# Altium schematic symbol library C&R.SchLib: 53 symbols
Pins are listed as number, name and electrical type; pins without a type are passive.

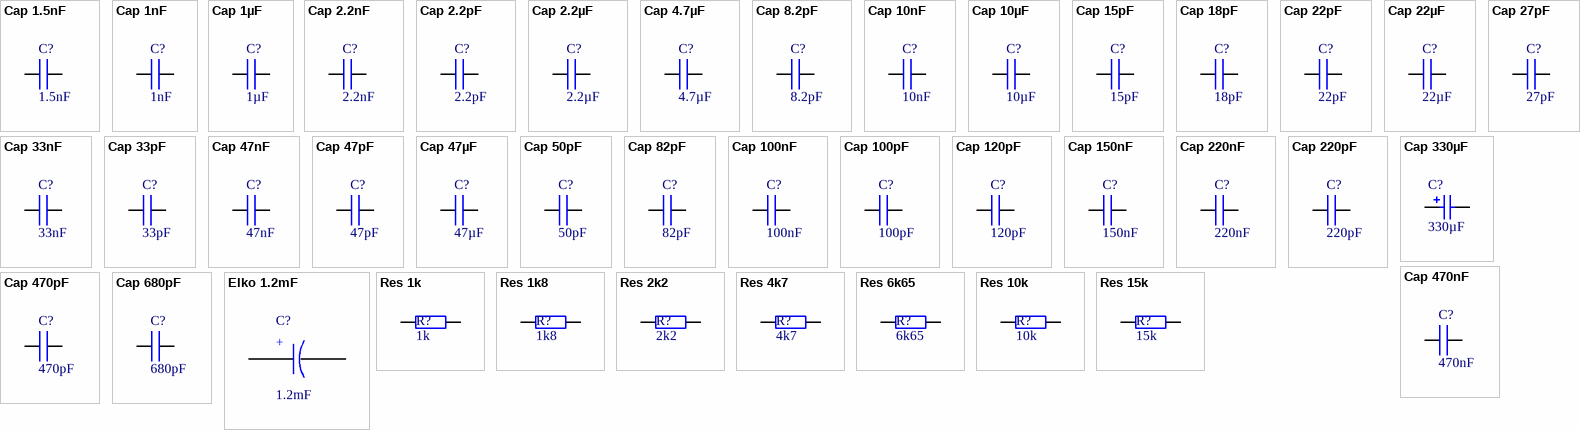
[diagram p0: symbols Cap 1.5nF to Res 15k]

## Cap 1.5nF
designator C?  Capacity: 1.5nF  (hidden comment: Cap 1.5nF)
Ceramic Capacitor 1.5nF; Voltage: 25V
footprint 0805 (C) (Chip Resistor, 2-Leads, Body 2.0x1.3mm, IPC Low Density)
footprint 0201 (C)
pins: 1, 2

## Cap 1nF
designator C?  Capacity: 1nF  (hidden comment: Cap 1nF)
Ceramic Capacitor 1nF; Voltage: 25V; Supplier 1: Digi-Key; Supplier Part Number 1: 445-1347-1-ND
footprint 0805 (C) (Chip Resistor, 2-Leads, Body 2.0x1.3mm, IPC Low Density)
pins: 1, 2

## Cap 1µF
designator C?  Capacity: 1µF  (hidden comment: Cap 1µF)
Ceramic Capacitor 1µF; Voltage: 25V; Supplier 1: Digi-Key; Supplier Part Number 1: 445-1590-1-ND
footprint 0805 (C) (Chip Resistor, 2-Leads, Body 2.0x1.3mm, IPC Low Density)
footprint 0201 (C)
footprint 0402 (C)
pins: 1, 2

## Cap 2.2nF
designator C?  Capacity: 2.2nF  (hidden comment: Cap 2.2nF)
Ceramic Capacitor 2.2nF; Voltage: 25V; Supplier 1: Digi-Key; Supplier Part Number 1: 445-7525-1-ND
footprint 0805 (C) (Chip Resistor, 2-Leads, Body 2.0x1.3mm, IPC Low Density)
footprint 0201 (C)
pins: 1, 2

## Cap 2.2pF
designator C?  Capacity: 2.2pF  (hidden comment: Cap 2.2pF)
Ceramic Capacitor 1nF; Voltage: 25V; Supplier 1: Digi-Key; Supplier Part Number 1: 478-5018-1-ND
footprint 0805 (C) (Chip Resistor, 2-Leads, Body 2.0x1.3mm, IPC Low Density)
pins: 1, 2

## Cap 2.2µF
designator C?  Capacity: 2.2µF  (hidden comment: Cap 2.2µF)
Ceramic Capacitor 2.2µF; Voltage: 25V; Supplier 1: Digi-Key; Supplier Part Number 1: 445-3459-1-ND
footprint 0805 (C) (Chip Resistor, 2-Leads, Body 2.0x1.3mm, IPC Low Density)
footprint 0402 (C)
pins: 1, 2

## Cap 4.7µF
designator C?  Capacity: 4.7µF  (hidden comment: Cap 4.7µF)
Ceramic Capacitor 4.7µF; Voltage: 25V; Supplier 1: Digi-Key; Supplier Part Number 1: 445-3460-1-ND
footprint 0805 (C) (Chip Resistor, 2-Leads, Body 2.0x1.3mm, IPC Low Density)
footprint 0402 (C)
pins: 1, 2

## Cap 8.2pF
designator C?  Capacity: 8.2pF  (hidden comment: Cap 8.2pF)
Ceramic Capacitor 8.2pF; Voltage: 50V; Digi-Key: 311-1012-1-ND
footprint 0805 (C) (Chip Resistor, 2-Leads, Body 2.0x1.3mm, IPC Low Density)
footprint 0402 (C)
footprint 0201 (C)
pins: 1, 2

## Cap 10nF
designator C?  Capacity: 10nF  (hidden comment: Cap 10nF)
Ceramic Capacitor 10nF; Voltage: 25V; Supplier 1: Digi-Key; Supplier Part Number 1: 445-1348-1-ND
footprint 0805 (C) (Chip Resistor, 2-Leads, Body 2.0x1.3mm, IPC Low Density)
footprint 0201 (C)
pins: 1, 2

## Cap 10µF
designator C?  Capacity: 10µF  (hidden comment: Cap 10µF)
Ceramic Capacitor 10µF; Voltage: 25V; Supplier 1: Digi-Key; Supplier Part Number 1: 490-5523-1-ND
footprint 0805 (C) (Chip Resistor, 2-Leads, Body 2.0x1.3mm, IPC Low Density)
footprint 0402 (C)
footprint 0603 (C)
pins: 1, 2

## Cap 15pF
designator C?  Capacity: 15pF  (hidden comment: Cap 15pF)
Ceramic Capacitor 15pF; Voltage: 50V; Digi-Key: 311-1017-1-ND
footprint 0805 (C) (Chip Resistor, 2-Leads, Body 2.0x1.3mm, IPC Low Density)
footprint 0402 (C)
footprint 0201 (C)
pins: 1, 2

## Cap 18pF
designator C?  Capacity: 18pF  (hidden comment: Cap 18pF)
Ceramic Capacitor 18pF; Voltage: 25V; Supplier 1: Digi-Key; Supplier Part Number 1: 478-1307-1-ND
footprint 0805 (C) (Chip Resistor, 2-Leads, Body 2.0x1.3mm, IPC Low Density)
pins: 1, 2

## Cap 22pF
designator C?  Capacity: 22pF  (hidden comment: Cap 22pF)
Ceramic Capacitor 22pF
footprint 0805 (C) (Chip Resistor, 2-Leads, Body 2.0x1.3mm, IPC Low Density)
footprint 0402 (C)
pins: 1, 2

## Cap 22µF
designator C?  CAPACITY: 22µF  (hidden comment: Cap 22µF)
Ceramic Capacitor 22µF; VOLTAGE: 35V; Supplier 1: Digi-Key; Supplier Part Number 1: 445-8045-1-ND
footprint 1206 (C) (Chip Resistor, 2-Leads, Body 3.2x1.6mm, IPC Low Density)
footprint 0805 (C) (Chip Resistor, 2-Leads, Body 2.0x1.3mm, IPC Low Density)
footprint 0603 (C)
pins: 1, 2

## Cap 27pF
designator C?  Capacity: 27pF  (hidden comment: Cap 27pF)
Ceramic Capacitor 27pF
footprint 0805 (C) (Chip Resistor, 2-Leads, Body 2.0x1.3mm, IPC Low Density)
footprint 0402 (C)
pins: 1, 2

## Cap 33nF
designator C?  Capacity: 33nF  (hidden comment: Cap 33nF)
Ceramic Capacitor 33nF
footprint 0805 (C) (Chip Resistor, 2-Leads, Body 2.0x1.3mm, IPC Low Density)
footprint 0402 (C)
footprint 0201 (C)
pins: 1, 2

## Cap 33pF
designator C?  Capacity: 33pF  (hidden comment: Cap 33pF)
Ceramic Capacitor 33pF; Voltage: 50V; Digi-Key: 311-1012-1-ND
footprint 0805 (C) (Chip Resistor, 2-Leads, Body 2.0x1.3mm, IPC Low Density)
footprint 0402 (C)
footprint 0201 (C)
pins: 1, 2

## Cap 47nF
designator C?  Capacity: 47nF  (hidden comment: Cap 47nF)
Ceramic Capacitor 47nF; Voltage: 50V; Digi-Key: 311-1012-1-ND
footprint 0805 (C) (Chip Resistor, 2-Leads, Body 2.0x1.3mm, IPC Low Density)
footprint 0402 (C)
footprint 0201 (C)
pins: 1, 2

## Cap 47pF
designator C?  Capacity: 47pF  (hidden comment: Cap 47pF)
Ceramic Capacitor 47pF
footprint 0805 (C) (Chip Resistor, 2-Leads, Body 2.0x1.3mm, IPC Low Density)
footprint 0402 (C)
footprint 0201 (C)
pins: 1, 2

## Cap 47µF
designator C?  Capacity: 47µF  (hidden comment: Cap 47µF)
Ceramic Capacitor 47µF; Voltage: 50V; Digi-Key: 311-1012-1-ND
footprint 0805 (C) (Chip Resistor, 2-Leads, Body 2.0x1.3mm, IPC Low Density)
footprint 0402 (C)
footprint 0201 (C)
pins: 1, 2

## Cap 50pF
designator C?  Capacity: 50pF  (hidden comment: Cap 50pF)
Ceramic Capacitor 50pF
footprint 0805 (C) (Chip Resistor, 2-Leads, Body 2.0x1.3mm, IPC Low Density)
footprint 0402 (C)
pins: 1, 2

## Cap 82pF
designator C?  Capacity: 82pF  (hidden comment: Cap 82pF)
Ceramic Capacitor 82pF
footprint 0805 (C) (Chip Resistor, 2-Leads, Body 2.0x1.3mm, IPC Low Density)
footprint 0402 (C)
pins: 1, 2

## Cap 100nF
designator C?  Capacity: 100nF  (hidden comment: Cap 100nF)
Ceramic Capacitor 100nF; Voltage: 25V
footprint 0805 (C) (Chip Resistor, 2-Leads, Body 2.0x1.3mm, IPC Low Density)
footprint 0201 (C)
pins: 1, 2

## Cap 100pF
designator C?  Capacity: 100pF  (hidden comment: Cap 100pF)
Ceramic Capacitor 100pF; Voltage: 25V
footprint 0805 (C) (Chip Resistor, 2-Leads, Body 2.0x1.3mm, IPC Low Density)
pins: 1, 2

## Cap 120pF
designator C?  Capacity: 120pF  (hidden comment: Cap 120pF)
Ceramic Capacitor 120pF; Voltage: 25V
footprint 0805 (C) (Chip Resistor, 2-Leads, Body 2.0x1.3mm, IPC Low Density)
pins: 1, 2

## Cap 150nF
designator C?  Capacity: 150nF  (hidden comment: Cap 150nF)
Ceramic Capacitor 150nF; Voltage: 50V; Digi-Key: 311-1012-1-ND
footprint 0805 (C) (Chip Resistor, 2-Leads, Body 2.0x1.3mm, IPC Low Density)
footprint 0402 (C)
footprint 0201 (C)
pins: 1, 2

## Cap 220nF
designator C?  Capacity: 220nF  (hidden comment: Cap 220nF)
Ceramic Capacitor 220nF; Voltage: 25V
footprint 0805 (C) (Chip Resistor, 2-Leads, Body 2.0x1.3mm, IPC Low Density)
footprint 0201 (C)
pins: 1, 2

## Cap 220pF
designator C?  Capacity: 220pF  (hidden comment: Cap 220pF)
Ceramic Capacitor 220pF; Voltage: 50V; Digi-Key: ?
footprint 0805 (C) (Chip Resistor, 2-Leads, Body 2.0x1.3mm, IPC Low Density)
footprint 0402 (C)
footprint 0201 (C)
pins: 1, 2

## Cap 330µF
designator C?  value 330µF  (hidden comment: Cap 330µF)
Tantalum Capacitor 330µF 10V; Published: 8-Jun-2000; LatestRevisionDate: 17-Jul-2002; LatestRevisionNote: Re-released for DXP Platform.; PackageReference: RB7.6-15; Publisher: Altium Limited; PackageDescription: Polarized Capacitor (Radial); 2 Leads; Supplier 1: Mouser; Supplier Part Number 1: 74-592W337X0010C2T20; Voltage: 10V
simulation model CAP (Capacitor)
signal-integrity model Cap Pol
footprint 3.2mm x 7.1mm (C) (Chip Resistor, 2-Leads, Body 3.2x1.6mm, IPC Low Density); pin to pad 1>A 2>K
pins: 1, 2
1 alternate drawing of the same symbol

## Cap 470nF
designator C?  Capacity: 470nF  (hidden comment: Cap 470nF)
Ceramic Capacitor 470nF; Voltage: 25V
footprint 0805 (C) (Chip Resistor, 2-Leads, Body 2.0x1.3mm, IPC Low Density)
footprint 0201 (C)
pins: 1, 2

## Cap 470pF
designator C?  Capacity: 470pF  (hidden comment: Cap 470pF)
Ceramic Capacitor 470pF; Voltage: 25V; Supplier 1: Digi-Key; Supplier Part Number 1: 478-1324-1-ND
footprint 0805 (C) (Chip Resistor, 2-Leads, Body 2.0x1.3mm, IPC Low Density)
pins: 1, 2

## Cap 680pF
designator C?  Capacity: 680pF  (hidden comment: Cap 680pF)
Ceramic Capacitor 680pF; Voltage: 25V; Supplier 1: Digi-Key; Supplier Part Number 1: 445-7503-1-ND
footprint 0805 (C) (Chip Resistor, 2-Leads, Body 2.0x1.3mm, IPC Low Density)
pins: 1, 2

## Elko 1.2mF
designator C?  CAPACITY: 1.2mF  (hidden comment: Elko 1.2mF)
VOLTAGE: 25V; Supplier 1: Mouser; Supplier Part Number 1: 667-EEU-FR1E122L
footprint CAP 10x25MM
pins: 1, 2
text: +

## Res 1k
designator R?  value 1k  (hidden comment: Res 1k)
Resistor 1k; Published: 8-Jun-2000; LatestRevisionDate: 17-Jul-2002; LatestRevisionNote: Re-released for DXP Platform.; PackageReference: AXIAL-0.4; Publisher: Altium Limited; PackageDescription: Axial Device, Thru-Hole; 2 Leads; 0.4 in Pin Spacing; Supplier 1: Digi-Key; Supplier Part Number 1: RMCF0805FT2K20CT-ND
footprint AXIAL-0.4 (Axial Device, Thru-Hole; 2 Leads; 0.4 in Pin Spacing)
simulation model RESISTOR (Resistor)
signal-integrity model Res
footprint 6-0805_M (Chip Resistor, Body 2.0x1.2mm, IPC Low Density)
footprint 0805 (R) (Chip Resistor, 2-Leads, Body 2.0x1.3mm, IPC Low Density)
pins: 1, 2

## Res 1k8
designator R?  value 1k8  (hidden comment: Res 1k8)
Resistor 1k8; Published: 8-Jun-2000; LatestRevisionDate: 17-Jul-2002; LatestRevisionNote: Re-released for DXP Platform.; PackageReference: AXIAL-0.4; Publisher: Altium Limited; PackageDescription: Axial Device, Thru-Hole; 2 Leads; 0.4 in Pin Spacing
footprint AXIAL-0.4 (Axial Device, Thru-Hole; 2 Leads; 0.4 in Pin Spacing)
simulation model RESISTOR (Resistor)
signal-integrity model Res
footprint 6-0805_M (Chip Resistor, Body 2.0x1.2mm, IPC Low Density)
footprint 0805 (R) (Chip Resistor, 2-Leads, Body 2.0x1.3mm, IPC Low Density)
pins: 1, 2

## Res 2k2
designator R?  value 2k2  (hidden comment: Res 2k2)
Resistor 2k2; Published: 8-Jun-2000; LatestRevisionDate: 17-Jul-2002; LatestRevisionNote: Re-released for DXP Platform.; PackageReference: AXIAL-0.4; Publisher: Altium Limited; PackageDescription: Axial Device, Thru-Hole; 2 Leads; 0.4 in Pin Spacing; Supplier 1: Digi-Key; Supplier Part Number 1: RMCF0805FT2K20CT-ND
footprint AXIAL-0.4 (Axial Device, Thru-Hole; 2 Leads; 0.4 in Pin Spacing)
simulation model RESISTOR (Resistor)
signal-integrity model Res
footprint 6-0805_M (Chip Resistor, Body 2.0x1.2mm, IPC Low Density)
footprint 0805 (R) (Chip Resistor, 2-Leads, Body 2.0x1.3mm, IPC Low Density)
footprint 0201 (R)
pins: 1, 2

## Res 4k7
designator R?  value 4k7  (hidden comment: Res 4k7)
Resistor 4k7; Published: 8-Jun-2000; LatestRevisionDate: 17-Jul-2002; LatestRevisionNote: Re-released for DXP Platform.; PackageReference: AXIAL-0.4; Publisher: Altium Limited; PackageDescription: Axial Device, Thru-Hole; 2 Leads; 0.4 in Pin Spacing; Supplier 1: Digi-Key; Supplier Part Number 1: RMCF0805FT4K70CT-ND
footprint AXIAL-0.4 (Axial Device, Thru-Hole; 2 Leads; 0.4 in Pin Spacing)
simulation model RESISTOR (Resistor)
signal-integrity model Res
footprint 6-0805_M (Chip Resistor, Body 2.0x1.2mm, IPC Low Density)
footprint 0805 (R) (Chip Resistor, 2-Leads, Body 2.0x1.3mm, IPC Low Density)
footprint 0201 (R)
pins: 1, 2

## Res 6k65
designator R?  value 6k65  (hidden comment: Res 6k65)
Resistor 6k65; Published: 8-Jun-2000; LatestRevisionDate: 17-Jul-2002; LatestRevisionNote: Re-released for DXP Platform.; PackageReference: AXIAL-0.4; Publisher: Altium Limited; PackageDescription: Axial Device, Thru-Hole; 2 Leads; 0.4 in Pin Spacing; Supplier 1: Digi-Key; Supplier Part Number 1: RMCF0805FT6K65CT-ND
footprint AXIAL-0.4 (Axial Device, Thru-Hole; 2 Leads; 0.4 in Pin Spacing)
simulation model RESISTOR (Resistor)
signal-integrity model Res
footprint 6-0805_M (Chip Resistor, Body 2.0x1.2mm, IPC Low Density)
footprint 0805 (R) (Chip Resistor, 2-Leads, Body 2.0x1.3mm, IPC Low Density)
pins: 1, 2

## Res 10k
designator R?  value 10k  (hidden comment: Res 10k)
Resistor 10k; Published: 8-Jun-2000; LatestRevisionDate: 17-Jul-2002; LatestRevisionNote: Re-released for DXP Platform.; PackageReference: AXIAL-0.4; Publisher: Altium Limited; PackageDescription: Axial Device, Thru-Hole; 2 Leads; 0.4 in Pin Spacing; Supplier 1: Digi-Key; Supplier Part Number 1: RMCF0805FT10K0CT-ND
footprint AXIAL-0.4 (Axial Device, Thru-Hole; 2 Leads; 0.4 in Pin Spacing)
simulation model RESISTOR (Resistor)
signal-integrity model Res
footprint 6-0805_M (Chip Resistor, Body 2.0x1.2mm, IPC Low Density)
footprint 0805 (R) (Chip Resistor, 2-Leads, Body 2.0x1.3mm, IPC Low Density)
footprint 0201 (R)
footprint 0603 (R)
pins: 1, 2

## Res 15k
designator R?  value 15k  (hidden comment: Res 15k)
Resistor 15k
footprint AXIAL-0.4 (Axial Device, Thru-Hole; 2 Leads; 0.4 in Pin Spacing)
simulation model RESISTOR (Resistor)
signal-integrity model Res
footprint 6-0805_M (Chip Resistor, Body 2.0x1.2mm, IPC Low Density)
footprint 0805 (R) (Chip Resistor, 2-Leads, Body 2.0x1.3mm, IPC Low Density)
footprint 0201 (R)
pins: 1, 2

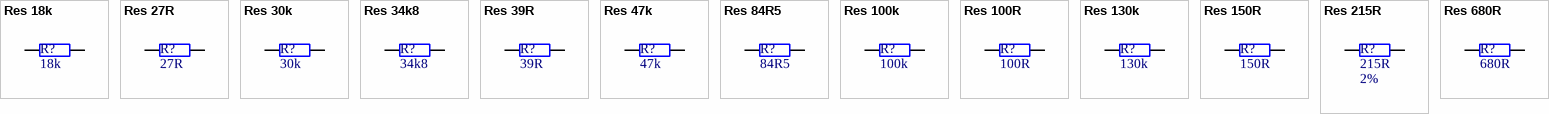
[diagram p1: symbols Res 18k to Res 680R]

## Res 18k
designator R?  value 18k  (hidden comment: Res 18k)
Resistor 18k; Published: 8-Jun-2000; LatestRevisionDate: 17-Jul-2002; LatestRevisionNote: Re-released for DXP Platform.; PackageReference: AXIAL-0.4; Publisher: Altium Limited; PackageDescription: Axial Device, Thru-Hole; 2 Leads; 0.4 in Pin Spacing; Supplier 1: Digi-Key; Supplier Part Number 1: RHM18.0KCRCT-ND
footprint AXIAL-0.4 (Axial Device, Thru-Hole; 2 Leads; 0.4 in Pin Spacing)
simulation model RESISTOR (Resistor)
signal-integrity model Res
footprint 6-0805_M (Chip Resistor, Body 2.0x1.2mm, IPC Low Density)
footprint 0805 (R) (Chip Resistor, 2-Leads, Body 2.0x1.3mm, IPC Low Density)
pins: 1, 2

## Res 27R
designator R?  value 27R  (hidden comment: Res 27R)
Resistor 27R; Published: 8-Jun-2000; LatestRevisionDate: 17-Jul-2002; LatestRevisionNote: Re-released for DXP Platform.; PackageReference: AXIAL-0.4; Publisher: Altium Limited; PackageDescription: Axial Device, Thru-Hole; 2 Leads; 0.4 in Pin Spacing
footprint AXIAL-0.4 (Axial Device, Thru-Hole; 2 Leads; 0.4 in Pin Spacing)
simulation model RESISTOR (Resistor)
signal-integrity model Res
footprint 6-0805_M (Chip Resistor, Body 2.0x1.2mm, IPC Low Density)
footprint 0805 (R) (Chip Resistor, 2-Leads, Body 2.0x1.3mm, IPC Low Density)
footprint 0201 (R)
pins: 1, 2

## Res 30k
designator R?  value 30k  (hidden comment: Res 30k)
Resistor 30k; Published: 8-Jun-2000; LatestRevisionDate: 17-Jul-2002; LatestRevisionNote: Re-released for DXP Platform.; PackageReference: AXIAL-0.4; Publisher: Altium Limited; PackageDescription: Axial Device, Thru-Hole; 2 Leads; 0.4 in Pin Spacing
footprint AXIAL-0.4 (Axial Device, Thru-Hole; 2 Leads; 0.4 in Pin Spacing)
simulation model RESISTOR (Resistor)
signal-integrity model Res
footprint 6-0805_M (Chip Resistor, Body 2.0x1.2mm, IPC Low Density)
footprint 0805 (R) (Chip Resistor, 2-Leads, Body 2.0x1.3mm, IPC Low Density)
footprint 0201 (R)
footprint 0603 (R)
pins: 1, 2

## Res 34k8
designator R?  value 34k8  (hidden comment: Res 34k8)
Resistor 34k8; Published: 8-Jun-2000; LatestRevisionDate: 17-Jul-2002; LatestRevisionNote: Re-released for DXP Platform.; PackageReference: AXIAL-0.4; Publisher: Altium Limited; PackageDescription: Axial Device, Thru-Hole; 2 Leads; 0.4 in Pin Spacing; Supplier 1: Digi-Key; Supplier Part Number 1: P34.8KCCT-ND
footprint AXIAL-0.4 (Axial Device, Thru-Hole; 2 Leads; 0.4 in Pin Spacing)
simulation model RESISTOR (Resistor)
signal-integrity model Res
footprint 6-0805_M (Chip Resistor, Body 2.0x1.2mm, IPC Low Density)
footprint 0805 (R) (Chip Resistor, 2-Leads, Body 2.0x1.3mm, IPC Low Density)
pins: 1, 2

## Res 39R
designator R?  value 39R  (hidden comment: Res 39R)
Resistor 39R; Published: 8-Jun-2000; LatestRevisionDate: 17-Jul-2002; LatestRevisionNote: Re-released for DXP Platform.; PackageReference: AXIAL-0.4; Publisher: Altium Limited; PackageDescription: Axial Device, Thru-Hole; 2 Leads; 0.4 in Pin Spacing; Supplier 1: Digi-Key; Supplier Part Number 1: RMCF0805FT39R0CT-ND
footprint AXIAL-0.4 (Axial Device, Thru-Hole; 2 Leads; 0.4 in Pin Spacing)
simulation model RESISTOR (Resistor)
signal-integrity model Res
footprint 6-0805_M (Chip Resistor, Body 2.0x1.2mm, IPC Low Density)
footprint 0805 (R) (Chip Resistor, 2-Leads, Body 2.0x1.3mm, IPC Low Density)
pins: 1, 2

## Res 47k
designator R?  value 47k  (hidden comment: Res 47k)
Resistor 47k; Published: 8-Jun-2000; LatestRevisionDate: 17-Jul-2002; LatestRevisionNote: Re-released for DXP Platform.; PackageReference: AXIAL-0.4; Publisher: Altium Limited; PackageDescription: Axial Device, Thru-Hole; 2 Leads; 0.4 in Pin Spacing; Supplier 1: Digi-Key; Supplier Part Number 1: RMCF0805FT2K20CT-ND
footprint AXIAL-0.4 (Axial Device, Thru-Hole; 2 Leads; 0.4 in Pin Spacing)
simulation model RESISTOR (Resistor)
signal-integrity model Res
footprint 6-0805_M (Chip Resistor, Body 2.0x1.2mm, IPC Low Density)
footprint 0805 (R) (Chip Resistor, 2-Leads, Body 2.0x1.3mm, IPC Low Density)
pins: 1, 2

## Res 84R5
designator R?  value 84R5  (hidden comment: Res 84R5)
Resistor 84R5; Published: 8-Jun-2000; LatestRevisionDate: 17-Jul-2002; LatestRevisionNote: Re-released for DXP Platform.; PackageReference: AXIAL-0.4; Publisher: Altium Limited; PackageDescription: Axial Device, Thru-Hole; 2 Leads; 0.4 in Pin Spacing; Supplier 1: Digi-Key; Supplier Part Number 1: RMCF0805FT84R5CT-ND
footprint AXIAL-0.4 (Axial Device, Thru-Hole; 2 Leads; 0.4 in Pin Spacing)
simulation model RESISTOR (Resistor)
signal-integrity model Res
footprint 6-0805_M (Chip Resistor, Body 2.0x1.2mm, IPC Low Density)
footprint 0805 (R) (Chip Resistor, 2-Leads, Body 2.0x1.3mm, IPC Low Density)
pins: 1, 2

## Res 100k
designator R?  value 100k  (hidden comment: Res 100k)
Resistor 100k; Published: 8-Jun-2000; LatestRevisionDate: 17-Jul-2002; LatestRevisionNote: Re-released for DXP Platform.; PackageReference: AXIAL-0.4; Publisher: Altium Limited; PackageDescription: Axial Device, Thru-Hole; 2 Leads; 0.4 in Pin Spacing
footprint AXIAL-0.4 (Axial Device, Thru-Hole; 2 Leads; 0.4 in Pin Spacing)
simulation model RESISTOR (Resistor)
signal-integrity model Res
footprint 6-0805_M (Chip Resistor, Body 2.0x1.2mm, IPC Low Density)
footprint 0805 (R) (Chip Resistor, 2-Leads, Body 2.0x1.3mm, IPC Low Density)
footprint 0201 (R)
pins: 1, 2

## Res 100R
designator R?  value 100R  (hidden comment: Res 100R)
Resistor 100R; Published: 8-Jun-2000; LatestRevisionDate: 17-Jul-2002; LatestRevisionNote: Re-released for DXP Platform.; PackageReference: AXIAL-0.4; Publisher: Altium Limited; PackageDescription: Axial Device, Thru-Hole; 2 Leads; 0.4 in Pin Spacing; Supplier 1: Digi-Key; Supplier Part Number 1: RMCF0805FT100RCT-ND
footprint AXIAL-0.4 (Axial Device, Thru-Hole; 2 Leads; 0.4 in Pin Spacing)
simulation model RESISTOR (Resistor)
signal-integrity model Res
footprint 6-0805_M (Chip Resistor, Body 2.0x1.2mm, IPC Low Density)
footprint 0805 (R) (Chip Resistor, 2-Leads, Body 2.0x1.3mm, IPC Low Density)
footprint 0201 (R)
pins: 1, 2

## Res 130k
designator R?  value 130k  (hidden comment: Res 130k)
Resistor 130k; Published: 8-Jun-2000; LatestRevisionDate: 17-Jul-2002; LatestRevisionNote: Re-released for DXP Platform.; PackageReference: AXIAL-0.4; Publisher: Altium Limited; PackageDescription: Axial Device, Thru-Hole; 2 Leads; 0.4 in Pin Spacing; Supplier 1: Digi-Key; Supplier Part Number 1: P130KCCT-ND
footprint AXIAL-0.4 (Axial Device, Thru-Hole; 2 Leads; 0.4 in Pin Spacing)
simulation model RESISTOR (Resistor)
signal-integrity model Res
footprint 6-0805_M (Chip Resistor, Body 2.0x1.2mm, IPC Low Density)
footprint 0805 (R) (Chip Resistor, 2-Leads, Body 2.0x1.3mm, IPC Low Density)
pins: 1, 2

## Res 150R
designator R?  value 150R  (hidden comment: Res 150R)
Resistor 150R; Published: 8-Jun-2000; LatestRevisionDate: 17-Jul-2002; LatestRevisionNote: Re-released for DXP Platform.; PackageReference: AXIAL-0.4; Publisher: Altium Limited; PackageDescription: Axial Device, Thru-Hole; 2 Leads; 0.4 in Pin Spacing; Supplier 1: Digi-Key; Supplier Part Number 1: RMCF0805FT150RCT-ND
footprint AXIAL-0.4 (Axial Device, Thru-Hole; 2 Leads; 0.4 in Pin Spacing)
simulation model RESISTOR (Resistor)
signal-integrity model Res
footprint 6-0805_M (Chip Resistor, Body 2.0x1.2mm, IPC Low Density)
footprint 0805 (R) (Chip Resistor, 2-Leads, Body 2.0x1.3mm, IPC Low Density)
pins: 1, 2

## Res 215R
designator R?  value 215R  Tolerance: 2%  (hidden comment: Res 215R)
Resistor 215R; Published: 8-Jun-2000; LatestRevisionDate: 17-Jul-2002; LatestRevisionNote: Re-released for DXP Platform.; PackageReference: AXIAL-0.4; Publisher: Altium Limited; PackageDescription: Axial Device, Thru-Hole; 2 Leads; 0.4 in Pin Spacing
footprint AXIAL-0.4 (Axial Device, Thru-Hole; 2 Leads; 0.4 in Pin Spacing)
simulation model RESISTOR (Resistor)
signal-integrity model Res
footprint 6-0805_M (Chip Resistor, Body 2.0x1.2mm, IPC Low Density)
footprint 0805 (R) (Chip Resistor, 2-Leads, Body 2.0x1.3mm, IPC Low Density)
pins: 1, 2

## Res 680R
designator R?  value 680R  (hidden comment: Res 680R)
Resistor 680R; Published: 8-Jun-2000; LatestRevisionDate: 17-Jul-2002; LatestRevisionNote: Re-released for DXP Platform.; PackageReference: AXIAL-0.4; Publisher: Altium Limited; PackageDescription: Axial Device, Thru-Hole; 2 Leads; 0.4 in Pin Spacing; Supplier 1: Digi-Key; Supplier Part Number 1: RMCF0805FT680RCT-ND
footprint AXIAL-0.4 (Axial Device, Thru-Hole; 2 Leads; 0.4 in Pin Spacing)
simulation model RESISTOR (Resistor)
signal-integrity model Res
footprint 6-0805_M (Chip Resistor, Body 2.0x1.2mm, IPC Low Density)
footprint 0805 (R) (Chip Resistor, 2-Leads, Body 2.0x1.3mm, IPC Low Density)
pins: 1, 2